# Altium integrated library WE-MAPI_rev15c.intlib: 99 symbols
Pins are listed as number, name and electrical type; pins without a type are passive.

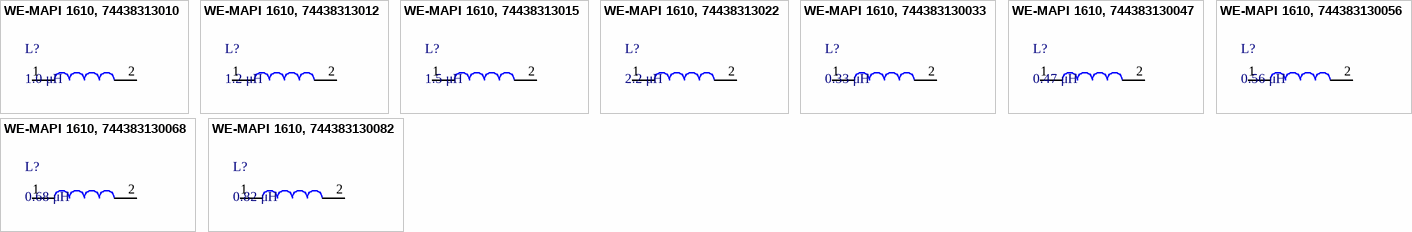
[diagram p0: symbols WE-MAPI 1610, 74438313010 to WE-MAPI 1610, 744383130082]

## WE-MAPI 1610, 74438313010
designator L?, comment 1.0 μH
WE-MAPI SMD Metal Alloy Power Inductor, Inductance = 1.0 μH; partNo: 74438313010; Manufacturer: Wurth Elektronik; Inductance: 1.0 μH; ComponentLink1Description: Manufacturer; ComponentLink1URL: http://www.we-online.de; Created by: Baojun Chen; Created Date: Nov.2015; ComponentLink2Description: Datasheet; ComponentLink2URL: http://katalog.we-online.de/pbs/datasheet/74438313010.pdf
footprint WE-MAPI_1610
pins: 1, 2

## WE-MAPI 1610, 74438313012
designator L?, comment 1.2 μH
WE-MAPI SMD Metal Alloy Power Inductor, Inductance = 1.2 μH; partNo: 74438313012; Manufacturer: Wurth Elektronik; Inductance: 1.2 μH; ComponentLink1Description: Manufacturer; ComponentLink1URL: http://www.we-online.de; Created by: Baojun Chen; Created Date: Nov.2015; ComponentLink2Description: Datasheet; ComponentLink2URL: http://katalog.we-online.de/pbs/datasheet/74438313012.pdf
footprint WE-MAPI_1610
pins: 1, 2

## WE-MAPI 1610, 74438313015
designator L?, comment 1.5 μH
WE-MAPI SMD Metal Alloy Power Inductor, Inductance = 1.5 μH; partNo: 74438313015; Manufacturer: Wurth Elektronik; Inductance: 1.5 μH; ComponentLink1Description: Manufacturer; ComponentLink1URL: http://www.we-online.de; Created by: Baojun Chen; Created Date: Nov.2015; ComponentLink2Description: Datasheet; ComponentLink2URL: http://katalog.we-online.de/pbs/datasheet/74438313015.pdf
footprint WE-MAPI_1610
pins: 1, 2

## WE-MAPI 1610, 74438313022
designator L?, comment 2.2 μH
WE-MAPI SMD Metal Alloy Power Inductor, Inductance = 2.2 μH; partNo: 74438313022; Manufacturer: Wurth Elektronik; Inductance: 2.2 μH; ComponentLink1Description: Manufacturer; ComponentLink1URL: http://www.we-online.de; Created by: Baojun Chen; Created Date: Nov.2015; ComponentLink2Description: Datasheet; ComponentLink2URL: http://katalog.we-online.de/pbs/datasheet/74438313022.pdf
footprint WE-MAPI_1610
pins: 1, 2

## WE-MAPI 1610, 744383130033
designator L?, comment 0.33 μH
WE-MAPI SMD Metal Alloy Power Inductor, Inductance = 0.33 μH; partNo: 744383130033; Manufacturer: Wurth Elektronik; Inductance: 0.33 μH; ComponentLink1Description: Manufacturer; ComponentLink1URL: http://www.we-online.de; Created by: Baojun Chen; Created Date: Nov.2015; ComponentLink2Description: Datasheet; ComponentLink2URL: http://katalog.we-online.de/pbs/datasheet/744383130033.pdf
footprint WE-MAPI_1610
pins: 1, 2

## WE-MAPI 1610, 744383130047
designator L?, comment 0.47 μH
WE-MAPI SMD Metal Alloy Power Inductor, Inductance = 0.47 μH; partNo: 744383130047; Manufacturer: Wurth Elektronik; Inductance: 0.47 μH; ComponentLink1Description: Manufacturer; ComponentLink1URL: http://www.we-online.de; Created by: Baojun Chen; Created Date: Nov.2015; ComponentLink2Description: Datasheet; ComponentLink2URL: http://katalog.we-online.de/pbs/datasheet/744383130047.pdf
footprint WE-MAPI_1610
pins: 1, 2

## WE-MAPI 1610, 744383130056
designator L?, comment 0.56 μH
WE-MAPI SMD Metal Alloy Power Inductor, Inductance = 0.56 μH; partNo: 744383130056; Manufacturer: Wurth Elektronik; Inductance: 0.56 μH; ComponentLink1Description: Manufacturer; ComponentLink1URL: http://www.we-online.de; Created by: Baojun Chen; Created Date: Nov.2015; ComponentLink2Description: Datasheet; ComponentLink2URL: http://katalog.we-online.de/pbs/datasheet/744383130056.pdf
footprint WE-MAPI_1610
pins: 1, 2

## WE-MAPI 1610, 744383130068
designator L?, comment 0.68 μH
WE-MAPI SMD Metal Alloy Power Inductor, Inductance = 0.68 μH; partNo: 744383130068; Manufacturer: Wurth Elektronik; Inductance: 0.68 μH; ComponentLink1Description: Manufacturer; ComponentLink1URL: http://www.we-online.de; Created by: Baojun Chen; Created Date: Nov.2015; ComponentLink2Description: Datasheet; ComponentLink2URL: http://katalog.we-online.de/pbs/datasheet/744383130068.pdf
footprint WE-MAPI_1610
pins: 1, 2

## WE-MAPI 1610, 744383130082
designator L?, comment 0.82 μH
WE-MAPI SMD Metal Alloy Power Inductor, Inductance = 0.82 μH; partNo: 744383130082; Manufacturer: Wurth Elektronik; Inductance: 0.82 μH; ComponentLink1Description: Manufacturer; ComponentLink1URL: http://www.we-online.de; Created by: Baojun Chen; Created Date: Nov.2015; ComponentLink2Description: Datasheet; ComponentLink2URL: http://katalog.we-online.de/pbs/datasheet/744383130082.pdf
footprint WE-MAPI_1610
pins: 1, 2


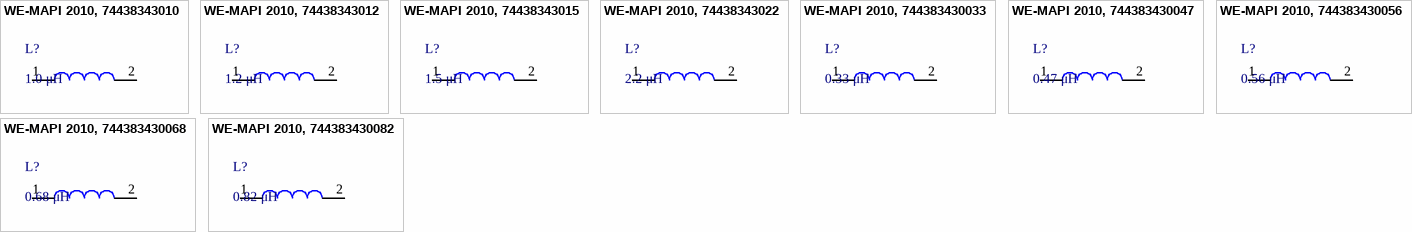
[diagram p1: symbols WE-MAPI 2010, 74438343010 to WE-MAPI 2010, 744383430082]

## WE-MAPI 2010, 74438343010
designator L?, comment 1.0 μH
WE-MAPI SMD Metal Alloy Power Inductor, Inductance = 1.0 μH; partNo: 74438343010; Manufacturer: Wurth Elektronik; Inductance: 1.0 μH; ComponentLink1Description: Manufacturer; ComponentLink1URL: http://www.we-online.de; Created by: Baojun Chen; Created Date: Nov.2015; ComponentLink2Description: Datasheet; ComponentLink2URL: http://katalog.we-online.de/pbs/datasheet/74438343010.pdf
footprint WE-MAPI_2010
pins: 1, 2

## WE-MAPI 2010, 74438343012
designator L?, comment 1.2 μH
WE-MAPI SMD Metal Alloy Power Inductor, Inductance = 1.2 μH; partNo: 74438343012; Manufacturer: Wurth Elektronik; Inductance: 1.2 μH; ComponentLink1Description: Manufacturer; ComponentLink1URL: http://www.we-online.de; Created by: Baojun Chen; Created Date: Nov.2015; ComponentLink2Description: Datasheet; ComponentLink2URL: http://katalog.we-online.de/pbs/datasheet/74438343012.pdf
footprint WE-MAPI_2010
pins: 1, 2

## WE-MAPI 2010, 74438343015
designator L?, comment 1.5 μH
WE-MAPI SMD Metal Alloy Power Inductor, Inductance = 1.5 μH; partNo: 74438343015; Manufacturer: Wurth Elektronik; Inductance: 1.5 μH; ComponentLink1Description: Manufacturer; ComponentLink1URL: http://www.we-online.de; Created by: Baojun Chen; Created Date: Nov.2015; ComponentLink2Description: Datasheet; ComponentLink2URL: http://katalog.we-online.de/pbs/datasheet/74438343015.pdf
footprint WE-MAPI_2010
pins: 1, 2

## WE-MAPI 2010, 74438343022
designator L?, comment 2.2 μH
WE-MAPI SMD Metal Alloy Power Inductor, Inductance = 2.2 μH; partNo: 74438343022; Manufacturer: Wurth Elektronik; Inductance: 2.2 μH; ComponentLink1Description: Manufacturer; ComponentLink1URL: http://www.we-online.de; Created by: Baojun Chen; Created Date: Nov.2015; ComponentLink2Description: Datasheet; ComponentLink2URL: http://katalog.we-online.de/pbs/datasheet/74438343022.pdf
footprint WE-MAPI_2010
pins: 1, 2

## WE-MAPI 2010, 744383430033
designator L?, comment 0.33 μH
WE-MAPI SMD Metal Alloy Power Inductor, Inductance = 0.33 μH; partNo: 744383430033; Manufacturer: Wurth Elektronik; Inductance: 0.33 μH; ComponentLink1Description: Manufacturer; ComponentLink1URL: http://www.we-online.de; Created by: Baojun Chen; Created Date: Nov.2015; ComponentLink2Description: Datasheet; ComponentLink2URL: http://katalog.we-online.de/pbs/datasheet/744383430033.pdf
footprint WE-MAPI_2010
pins: 1, 2

## WE-MAPI 2010, 744383430047
designator L?, comment 0.47 μH
WE-MAPI SMD Metal Alloy Power Inductor, Inductance = 0.47 μH; partNo: 744383430047; Manufacturer: Wurth Elektronik; Inductance: 0.47 μH; ComponentLink1Description: Manufacturer; ComponentLink1URL: http://www.we-online.de; Created by: Baojun Chen; Created Date: Nov.2015; ComponentLink2Description: Datasheet; ComponentLink2URL: http://katalog.we-online.de/pbs/datasheet/744383430047.pdf
footprint WE-MAPI_2010
pins: 1, 2

## WE-MAPI 2010, 744383430056
designator L?, comment 0.56 μH
WE-MAPI SMD Metal Alloy Power Inductor, Inductance = 0.56 μH; partNo: 744383430056; Manufacturer: Wurth Elektronik; Inductance: 0.56 μH; ComponentLink1Description: Manufacturer; ComponentLink1URL: http://www.we-online.de; Created by: Baojun Chen; Created Date: Nov.2015; ComponentLink2Description: Datasheet; ComponentLink2URL: http://katalog.we-online.de/pbs/datasheet/744383430056.pdf
footprint WE-MAPI_2010
pins: 1, 2

## WE-MAPI 2010, 744383430068
designator L?, comment 0.68 μH
WE-MAPI SMD Metal Alloy Power Inductor, Inductance = 0.68 μH; partNo: 744383430068; Manufacturer: Wurth Elektronik; Inductance: 0.68 μH; ComponentLink1Description: Manufacturer; ComponentLink1URL: http://www.we-online.de; Created by: Baojun Chen; Created Date: Nov.2015; ComponentLink2Description: Datasheet; ComponentLink2URL: http://katalog.we-online.de/pbs/datasheet/744383430068.pdf
footprint WE-MAPI_2010
pins: 1, 2

## WE-MAPI 2010, 744383430082
designator L?, comment 0.82 μH
WE-MAPI SMD Metal Alloy Power Inductor, Inductance = 0.82 μH; partNo: 744383430082; Manufacturer: Wurth Elektronik; Inductance: 0.82 μH; ComponentLink1Description: Manufacturer; ComponentLink1URL: http://www.we-online.de; Created by: Baojun Chen; Created Date: Nov.2015; ComponentLink2Description: Datasheet; ComponentLink2URL: http://katalog.we-online.de/pbs/datasheet/744383430082.pdf
footprint WE-MAPI_2010
pins: 1, 2


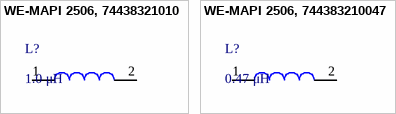
[diagram p2: symbols WE-MAPI 2506, 74438321010 to WE-MAPI 2506, 744383210047]

## WE-MAPI 2506, 74438321010
designator L?, comment 1.0 μH
WE-MAPI SMD Metal Alloy Power Inductor, Inductance = 1.0 μH; partNo: 74438321010; Manufacturer: Wurth Elektronik; Inductance: 1.0 μH; ComponentLink1Description: Manufacturer; ComponentLink1URL: http://www.we-online.de; Created by: Baojun Chen; Created Date: Nov.2015; ComponentLink2Description: Datasheet; ComponentLink2URL: http://katalog.we-online.de/pbs/datasheet/74438321010.pdf
footprint WE-MAPI_2506
pins: 1, 2

## WE-MAPI 2506, 744383210047
designator L?, comment 0.47 μH
WE-MAPI SMD Metal Alloy Power Inductor, Inductance = 0.47 μH; partNo: 744383210047; Manufacturer: Wurth Elektronik; Inductance: 0.47 μH; ComponentLink1Description: Manufacturer; ComponentLink1URL: http://www.we-online.de; Created by: Baojun Chen; Created Date: Nov.2015; ComponentLink2Description: Datasheet; ComponentLink2URL: http://katalog.we-online.de/pbs/datasheet/744383210047.pdf
footprint WE-MAPI_2506
pins: 1, 2


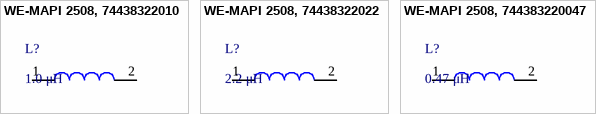
[diagram p3: symbols WE-MAPI 2508, 74438322010 to WE-MAPI 2508, 744383220047]

## WE-MAPI 2508, 74438322010
designator L?, comment 1.0 μH
WE-MAPI SMD Metal Alloy Power Inductor, Inductance = 1.0 μH; partNo: 74438322010; Manufacturer: Wurth Elektronik; Inductance: 1.0 μH; ComponentLink1Description: Manufacturer; ComponentLink1URL: http://www.we-online.de; Created by: Baojun Chen; Created Date: Nov.2015; ComponentLink2Description: Datasheet; ComponentLink2URL: http://katalog.we-online.de/pbs/datasheet/74438322010.pdf
footprint WE-MAPI_2508
pins: 1, 2

## WE-MAPI 2508, 74438322022
designator L?, comment 2.2 μH
WE-MAPI SMD Metal Alloy Power Inductor, Inductance = 2.2 μH; partNo: 74438322022; Manufacturer: Wurth Elektronik; Inductance: 2.2 μH; ComponentLink1Description: Manufacturer; ComponentLink1URL: http://www.we-online.de; Created by: Baojun Chen; Created Date: Nov.2015; ComponentLink2Description: Datasheet; ComponentLink2URL: http://katalog.we-online.de/pbs/datasheet/74438322022.pdf
footprint WE-MAPI_2508
pins: 1, 2

## WE-MAPI 2508, 744383220047
designator L?, comment 0.47 μH
WE-MAPI SMD Metal Alloy Power Inductor, Inductance = 0.47 μH; partNo: 744383220047; Manufacturer: Wurth Elektronik; Inductance: 0.47 μH; ComponentLink1Description: Manufacturer; ComponentLink1URL: http://www.we-online.de; Created by: Baojun Chen; Created Date: Nov.2015; ComponentLink2Description: Datasheet; ComponentLink2URL: http://katalog.we-online.de/pbs/datasheet/744383220047.pdf
footprint WE-MAPI_2508
pins: 1, 2


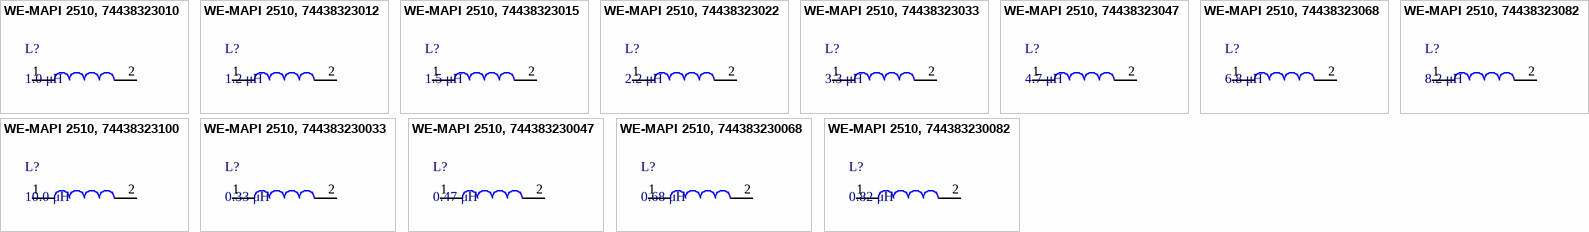
[diagram p4: symbols WE-MAPI 2510, 74438323010 to WE-MAPI 2510, 744383230082]

## WE-MAPI 2510, 74438323010
designator L?, comment 1.0 μH
WE-MAPI SMD Metal Alloy Power Inductor, Inductance = 1.0 μH; partNo: 74438323010; Manufacturer: Wurth Elektronik; Inductance: 1.0 μH; ComponentLink1Description: Manufacturer; ComponentLink1URL: http://www.we-online.de; Created by: Baojun Chen; Created Date: Nov.2015; ComponentLink2Description: Datasheet; ComponentLink2URL: http://katalog.we-online.de/pbs/datasheet/74438323010.pdf
footprint WE-MAPI_2510
pins: 1, 2

## WE-MAPI 2510, 74438323012
designator L?, comment 1.2 μH
WE-MAPI SMD Metal Alloy Power Inductor, Inductance = 1.2 μH; partNo: 74438323012; Manufacturer: Wurth Elektronik; Inductance: 1.2 μH; ComponentLink1Description: Manufacturer; ComponentLink1URL: http://www.we-online.de; Created by: Baojun Chen; Created Date: Nov.2015; ComponentLink2Description: Datasheet; ComponentLink2URL: http://katalog.we-online.de/pbs/datasheet/74438323012.pdf
footprint WE-MAPI_2510
pins: 1, 2

## WE-MAPI 2510, 74438323015
designator L?, comment 1.5 μH
WE-MAPI SMD Metal Alloy Power Inductor, Inductance = 1.5 μH; partNo: 74438323015; Manufacturer: Wurth Elektronik; Inductance: 1.5 μH; ComponentLink1Description: Manufacturer; ComponentLink1URL: http://www.we-online.de; Created by: Baojun Chen; Created Date: Nov.2015; ComponentLink2Description: Datasheet; ComponentLink2URL: http://katalog.we-online.de/pbs/datasheet/74438323015.pdf
footprint WE-MAPI_2510
pins: 1, 2

## WE-MAPI 2510, 74438323022
designator L?, comment 2.2 μH
WE-MAPI SMD Metal Alloy Power Inductor, Inductance = 2.2 μH; partNo: 74438323022; Manufacturer: Wurth Elektronik; Inductance: 2.2 μH; ComponentLink1Description: Manufacturer; ComponentLink1URL: http://www.we-online.de; Created by: Baojun Chen; Created Date: Nov.2015; ComponentLink2Description: Datasheet; ComponentLink2URL: http://katalog.we-online.de/pbs/datasheet/74438323022.pdf
footprint WE-MAPI_2510
pins: 1, 2

## WE-MAPI 2510, 74438323033
designator L?, comment 3.3 μH
WE-MAPI SMD Metal Alloy Power Inductor, Inductance = 3.3 μH; partNo: 74438323033; Manufacturer: Wurth Elektronik; Inductance: 3.3 μH; ComponentLink1Description: Manufacturer; ComponentLink1URL: http://www.we-online.de; Created by: Baojun Chen; Created Date: Nov.2015; ComponentLink2Description: Datasheet; ComponentLink2URL: http://katalog.we-online.de/pbs/datasheet/74438323033.pdf
footprint WE-MAPI_2510
pins: 1, 2

## WE-MAPI 2510, 74438323047
designator L?, comment 4.7 μH
WE-MAPI SMD Metal Alloy Power Inductor, Inductance = 4.7 μH; partNo: 74438323047; Manufacturer: Wurth Elektronik; Inductance: 4.7 μH; ComponentLink1Description: Manufacturer; ComponentLink1URL: http://www.we-online.de; Created by: Baojun Chen; Created Date: Nov.2015; ComponentLink2Description: Datasheet; ComponentLink2URL: http://katalog.we-online.de/pbs/datasheet/74438323047.pdf
footprint WE-MAPI_2510
pins: 1, 2

## WE-MAPI 2510, 74438323068
designator L?, comment 6.8 μH
WE-MAPI SMD Metal Alloy Power Inductor, Inductance = 6.8 μH; partNo: 74438323068; Manufacturer: Wurth Elektronik; Inductance: 6.8 μH; ComponentLink1Description: Manufacturer; ComponentLink1URL: http://www.we-online.de; Created by: Baojun Chen; Created Date: Nov.2015; ComponentLink2Description: Datasheet; ComponentLink2URL: http://katalog.we-online.de/pbs/datasheet/74438323068.pdf
footprint WE-MAPI_2510
pins: 1, 2

## WE-MAPI 2510, 74438323082
designator L?, comment 8.2 μH
WE-MAPI SMD Metal Alloy Power Inductor, Inductance = 8.2 μH; partNo: 74438323082; Manufacturer: Wurth Elektronik; Inductance: 8.2 μH; ComponentLink1Description: Manufacturer; ComponentLink1URL: http://www.we-online.de; Created by: Baojun Chen; Created Date: Nov.2015; ComponentLink2Description: Datasheet; ComponentLink2URL: http://katalog.we-online.de/pbs/datasheet/74438323082.pdf
footprint WE-MAPI_2510
pins: 1, 2

## WE-MAPI 2510, 74438323100
designator L?, comment 10.0 μH
WE-MAPI SMD Metal Alloy Power Inductor, Inductance = 10.0 μH; partNo: 74438323100; Manufacturer: Wurth Elektronik; Inductance: 10.0 μH; ComponentLink1Description: Manufacturer; ComponentLink1URL: http://www.we-online.de; Created by: Baojun Chen; Created Date: Nov.2015; ComponentLink2Description: Datasheet; ComponentLink2URL: http://katalog.we-online.de/pbs/datasheet/74438323100.pdf
footprint WE-MAPI_2510
pins: 1, 2

## WE-MAPI 2510, 744383230033
designator L?, comment 0.33 μH
WE-MAPI SMD Metal Alloy Power Inductor, Inductance = 0.33 μH; partNo: 744383230033; Manufacturer: Wurth Elektronik; Inductance: 0.33 μH; ComponentLink1Description: Manufacturer; ComponentLink1URL: http://www.we-online.de; Created by: Baojun Chen; Created Date: Nov.2015; ComponentLink2Description: Datasheet; ComponentLink2URL: http://katalog.we-online.de/pbs/datasheet/744383230033.pdf
footprint WE-MAPI_2510
pins: 1, 2

## WE-MAPI 2510, 744383230047
designator L?, comment 0.47 μH
WE-MAPI SMD Metal Alloy Power Inductor, Inductance = 0.47 μH; partNo: 744383230047; Manufacturer: Wurth Elektronik; Inductance: 0.47 μH; ComponentLink1Description: Manufacturer; ComponentLink1URL: http://www.we-online.de; Created by: Baojun Chen; Created Date: Nov.2015; ComponentLink2Description: Datasheet; ComponentLink2URL: http://katalog.we-online.de/pbs/datasheet/744383230047.pdf
footprint WE-MAPI_2510
pins: 1, 2

## WE-MAPI 2510, 744383230068
designator L?, comment 0.68 μH
WE-MAPI SMD Metal Alloy Power Inductor, Inductance = 0.68 μH; partNo: 744383230068; Manufacturer: Wurth Elektronik; Inductance: 0.68 μH; ComponentLink1Description: Manufacturer; ComponentLink1URL: http://www.we-online.de; Created by: Baojun Chen; Created Date: Nov.2015; ComponentLink2Description: Datasheet; ComponentLink2URL: http://katalog.we-online.de/pbs/datasheet/744383230068.pdf
footprint WE-MAPI_2510
pins: 1, 2

## WE-MAPI 2510, 744383230082
designator L?, comment 0.82 μH
WE-MAPI SMD Metal Alloy Power Inductor, Inductance = 0.82 μH; partNo: 744383230082; Manufacturer: Wurth Elektronik; Inductance: 0.82 μH; ComponentLink1Description: Manufacturer; ComponentLink1URL: http://www.we-online.de; Created by: Baojun Chen; Created Date: Nov.2015; ComponentLink2Description: Datasheet; ComponentLink2URL: http://katalog.we-online.de/pbs/datasheet/744383230082.pdf
footprint WE-MAPI_2510
pins: 1, 2


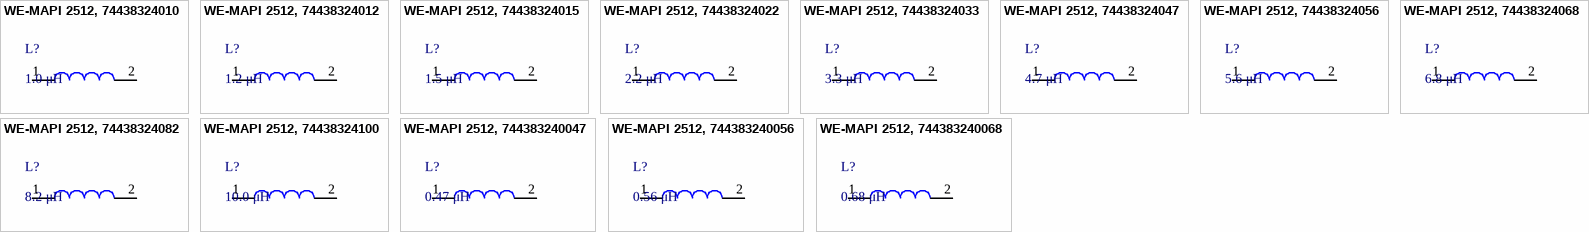
[diagram p5: symbols WE-MAPI 2512, 74438324010 to WE-MAPI 2512, 744383240068]

## WE-MAPI 2512, 74438324010
designator L?, comment 1.0 μH
WE-MAPI SMD Metal Alloy Power Inductor, Inductance = 1.0 μH; partNo: 74438324010; Manufacturer: Wurth Elektronik; Inductance: 1.0 μH; ComponentLink1Description: Manufacturer; ComponentLink1URL: http://www.we-online.de; Created by: Baojun Chen; Created Date: Nov.2015; ComponentLink2Description: Datasheet; ComponentLink2URL: http://katalog.we-online.de/pbs/datasheet/74438324010.pdf
footprint WE-MAPI_2512
pins: 1, 2

## WE-MAPI 2512, 74438324012
designator L?, comment 1.2 μH
WE-MAPI SMD Metal Alloy Power Inductor, Inductance = 1.2 μH; partNo: 74438324012; Manufacturer: Wurth Elektronik; Inductance: 1.2 μH; ComponentLink1Description: Manufacturer; ComponentLink1URL: http://www.we-online.de; Created by: Baojun Chen; Created Date: Nov.2015; ComponentLink2Description: Datasheet; ComponentLink2URL: http://katalog.we-online.de/pbs/datasheet/74438324012.pdf
footprint WE-MAPI_2512
pins: 1, 2

## WE-MAPI 2512, 74438324015
designator L?, comment 1.5 μH
WE-MAPI SMD Metal Alloy Power Inductor, Inductance = 1.5 μH; partNo: 74438324015; Manufacturer: Wurth Elektronik; Inductance: 1.5 μH; ComponentLink1Description: Manufacturer; ComponentLink1URL: http://www.we-online.de; Created by: Baojun Chen; Created Date: Nov.2015; ComponentLink2Description: Datasheet; ComponentLink2URL: http://katalog.we-online.de/pbs/datasheet/74438324015.pdf
footprint WE-MAPI_2512
pins: 1, 2

## WE-MAPI 2512, 74438324022
designator L?, comment 2.2 μH
WE-MAPI SMD Metal Alloy Power Inductor, Inductance = 2.2 μH; partNo: 74438324022; Manufacturer: Wurth Elektronik; Inductance: 2.2 μH; ComponentLink1Description: Manufacturer; ComponentLink1URL: http://www.we-online.de; Created by: Baojun Chen; Created Date: Nov.2015; ComponentLink2Description: Datasheet; ComponentLink2URL: http://katalog.we-online.de/pbs/datasheet/74438324022.pdf
footprint WE-MAPI_2512
pins: 1, 2

## WE-MAPI 2512, 74438324033
designator L?, comment 3.3 μH
WE-MAPI SMD Metal Alloy Power Inductor, Inductance = 3.3 μH; partNo: 74438324033; Manufacturer: Wurth Elektronik; Inductance: 3.3 μH; ComponentLink1Description: Manufacturer; ComponentLink1URL: http://www.we-online.de; Created by: Baojun Chen; Created Date: Nov.2015; ComponentLink2Description: Datasheet; ComponentLink2URL: http://katalog.we-online.de/pbs/datasheet/74438324033.pdf
footprint WE-MAPI_2512
pins: 1, 2

## WE-MAPI 2512, 74438324047
designator L?, comment 4.7 μH
WE-MAPI SMD Metal Alloy Power Inductor, Inductance = 4.7 μH; partNo: 74438324047; Manufacturer: Wurth Elektronik; Inductance: 4.7 μH; ComponentLink1Description: Manufacturer; ComponentLink1URL: http://www.we-online.de; Created by: Baojun Chen; Created Date: Nov.2015; ComponentLink2Description: Datasheet; ComponentLink2URL: http://katalog.we-online.de/pbs/datasheet/74438324047.pdf
footprint WE-MAPI_2512
pins: 1, 2

## WE-MAPI 2512, 74438324056
designator L?, comment 5.6 μH
WE-MAPI SMD Metal Alloy Power Inductor, Inductance = 5.6 μH; partNo: 74438324056; Manufacturer: Wurth Elektronik; Inductance: 5.6 μH; ComponentLink1Description: Manufacturer; ComponentLink1URL: http://www.we-online.de; Created by: Baojun Chen; Created Date: Nov.2015; ComponentLink2Description: Datasheet; ComponentLink2URL: http://katalog.we-online.de/pbs/datasheet/74438324056.pdf
footprint WE-MAPI_2512
pins: 1, 2

## WE-MAPI 2512, 74438324068
designator L?, comment 6.8 μH
WE-MAPI SMD Metal Alloy Power Inductor, Inductance = 6.8 μH; partNo: 74438324068; Manufacturer: Wurth Elektronik; Inductance: 6.8 μH; ComponentLink1Description: Manufacturer; ComponentLink1URL: http://www.we-online.de; Created by: Baojun Chen; Created Date: Nov.2015; ComponentLink2Description: Datasheet; ComponentLink2URL: http://katalog.we-online.de/pbs/datasheet/74438324068.pdf
footprint WE-MAPI_2512
pins: 1, 2

## WE-MAPI 2512, 74438324082
designator L?, comment 8.2 μH
WE-MAPI SMD Metal Alloy Power Inductor, Inductance = 8.2 μH; partNo: 74438324082; Manufacturer: Wurth Elektronik; Inductance: 8.2 μH; ComponentLink1Description: Manufacturer; ComponentLink1URL: http://www.we-online.de; Created by: Baojun Chen; Created Date: Nov.2015; ComponentLink2Description: Datasheet; ComponentLink2URL: http://katalog.we-online.de/pbs/datasheet/74438324082.pdf
footprint WE-MAPI_2512
pins: 1, 2

## WE-MAPI 2512, 74438324100
designator L?, comment 10.0 μH
WE-MAPI SMD Metal Alloy Power Inductor, Inductance = 10.0 μH; partNo: 74438324100; Manufacturer: Wurth Elektronik; Inductance: 10.0 μH; ComponentLink1Description: Manufacturer; ComponentLink1URL: http://www.we-online.de; Created by: Baojun Chen; Created Date: Nov.2015; ComponentLink2Description: Datasheet; ComponentLink2URL: http://katalog.we-online.de/pbs/datasheet/74438324100.pdf
footprint WE-MAPI_2512
pins: 1, 2

## WE-MAPI 2512, 744383240047
designator L?, comment 0.47 μH
WE-MAPI SMD Metal Alloy Power Inductor, Inductance = 0.47 μH; partNo: 744383240047; Manufacturer: Wurth Elektronik; Inductance: 0.47 μH; ComponentLink1Description: Manufacturer; ComponentLink1URL: http://www.we-online.de; Created by: Baojun Chen; Created Date: Nov.2015; ComponentLink2Description: Datasheet; ComponentLink2URL: http://katalog.we-online.de/pbs/datasheet/744383240047.pdf
footprint WE-MAPI_2512
pins: 1, 2

## WE-MAPI 2512, 744383240056
designator L?, comment 0.56 μH
WE-MAPI SMD Metal Alloy Power Inductor, Inductance = 0.56 μH; partNo: 744383240056; Manufacturer: Wurth Elektronik; Inductance: 0.56 μH; ComponentLink1Description: Manufacturer; ComponentLink1URL: http://www.we-online.de; Created by: Baojun Chen; Created Date: Nov.2015; ComponentLink2Description: Datasheet; ComponentLink2URL: http://katalog.we-online.de/pbs/datasheet/744383240056.pdf
footprint WE-MAPI_2512
pins: 1, 2

## WE-MAPI 2512, 744383240068
designator L?, comment 0.68 μH
WE-MAPI SMD Metal Alloy Power Inductor, Inductance = 0.68 μH; partNo: 744383240068; Manufacturer: Wurth Elektronik; Inductance: 0.68 μH; ComponentLink1Description: Manufacturer; ComponentLink1URL: http://www.we-online.de; Created by: Baojun Chen; Created Date: Nov.2015; ComponentLink2Description: Datasheet; ComponentLink2URL: http://katalog.we-online.de/pbs/datasheet/744383240068.pdf
footprint WE-MAPI_2512
pins: 1, 2


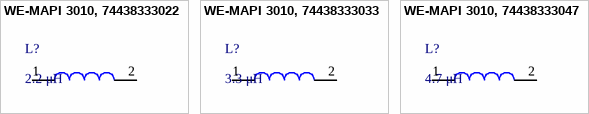
[diagram p6: symbols WE-MAPI 3010, 74438333022 to WE-MAPI 3010, 74438333047]

## WE-MAPI 3010, 74438333022
designator L?, comment 2.2 μH
WE-MAPI SMD Metal Alloy Power Inductor, Inductance = 2.2 μH; partNo: 74438333022; Manufacturer: Wurth Elektronik; Inductance: 2.2 μH; ComponentLink1Description: Manufacturer; ComponentLink1URL: http://www.we-online.de; Created by: Baojun Chen; Created Date: Nov.2015; ComponentLink2Description: Datasheet; ComponentLink2URL: http://katalog.we-online.de/pbs/datasheet/74438333022.pdf
footprint WE-MAPI_3010
pins: 1, 2

## WE-MAPI 3010, 74438333033
designator L?, comment 3.3 μH
WE-MAPI SMD Metal Alloy Power Inductor, Inductance = 3.3 μH; partNo: 74438333033; Manufacturer: Wurth Elektronik; Inductance: 3.3 μH; ComponentLink1Description: Manufacturer; ComponentLink1URL: http://www.we-online.de; Created by: Baojun Chen; Created Date: Nov.2015; ComponentLink2Description: Datasheet; ComponentLink2URL: http://katalog.we-online.de/pbs/datasheet/74438333033.pdf
footprint WE-MAPI_3010
pins: 1, 2

## WE-MAPI 3010, 74438333047
designator L?, comment 4.7 μH
WE-MAPI SMD Metal Alloy Power Inductor, Inductance = 4.7 μH; partNo: 74438333047; Manufacturer: Wurth Elektronik; Inductance: 4.7 μH; ComponentLink1Description: Manufacturer; ComponentLink1URL: http://www.we-online.de; Created by: Baojun Chen; Created Date: Nov.2015; ComponentLink2Description: Datasheet; ComponentLink2URL: http://katalog.we-online.de/pbs/datasheet/74438333047.pdf
footprint WE-MAPI_3010
pins: 1, 2


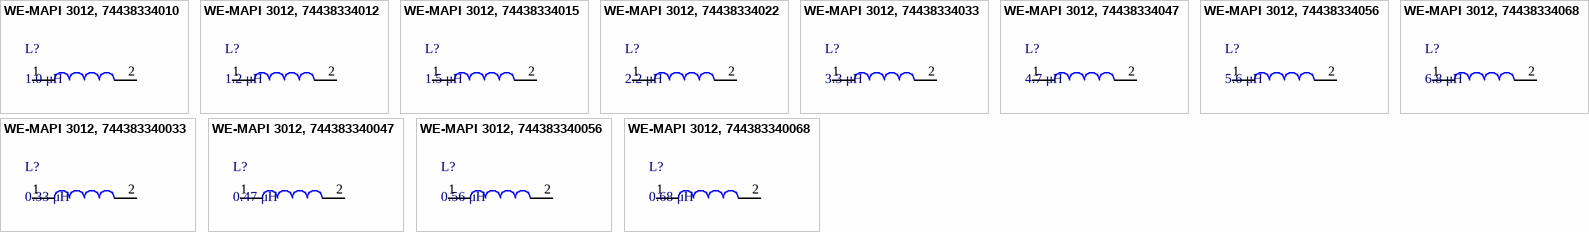
[diagram p7: symbols WE-MAPI 3012, 74438334010 to WE-MAPI 3012, 744383340068]

## WE-MAPI 3012, 74438334010
designator L?, comment 1.0 μH
WE-MAPI SMD Metal Alloy Power Inductor, Inductance = 1.0 μH; partNo: 74438334010; Manufacturer: Wurth Elektronik; Inductance: 1.0 μH; ComponentLink1Description: Manufacturer; ComponentLink1URL: http://www.we-online.de; Created by: Baojun Chen; Created Date: Nov.2015; ComponentLink2Description: Datasheet; ComponentLink2URL: http://katalog.we-online.de/pbs/datasheet/74438334010.pdf
footprint WE-MAPI_3012
pins: 1, 2

## WE-MAPI 3012, 74438334012
designator L?, comment 1.2 μH
WE-MAPI SMD Metal Alloy Power Inductor, Inductance = 1.2 μH; partNo: 74438334012; Manufacturer: Wurth Elektronik; Inductance: 1.2 μH; ComponentLink1Description: Manufacturer; ComponentLink1URL: http://www.we-online.de; Created by: Baojun Chen; Created Date: Nov.2015; ComponentLink2Description: Datasheet; ComponentLink2URL: http://katalog.we-online.de/pbs/datasheet/74438334012.pdf
footprint WE-MAPI_3012
pins: 1, 2

## WE-MAPI 3012, 74438334015
designator L?, comment 1.5 μH
WE-MAPI SMD Metal Alloy Power Inductor, Inductance = 1.5 μH; partNo: 74438334015; Manufacturer: Wurth Elektronik; Inductance: 1.5 μH; ComponentLink1Description: Manufacturer; ComponentLink1URL: http://www.we-online.de; Created by: Baojun Chen; Created Date: Nov.2015; ComponentLink2Description: Datasheet; ComponentLink2URL: http://katalog.we-online.de/pbs/datasheet/74438334015.pdf
footprint WE-MAPI_3012
pins: 1, 2

## WE-MAPI 3012, 74438334022
designator L?, comment 2.2 μH
WE-MAPI SMD Metal Alloy Power Inductor, Inductance = 2.2 μH; partNo: 74438334022; Manufacturer: Wurth Elektronik; Inductance: 2.2 μH; ComponentLink1Description: Manufacturer; ComponentLink1URL: http://www.we-online.de; Created by: Baojun Chen; Created Date: Nov.2015; ComponentLink2Description: Datasheet; ComponentLink2URL: http://katalog.we-online.de/pbs/datasheet/74438334022.pdf
footprint WE-MAPI_3012
pins: 1, 2

## WE-MAPI 3012, 74438334033
designator L?, comment 3.3 μH
WE-MAPI SMD Metal Alloy Power Inductor, Inductance = 3.3 μH; partNo: 74438334033; Manufacturer: Wurth Elektronik; Inductance: 3.3 μH; ComponentLink1Description: Manufacturer; ComponentLink1URL: http://www.we-online.de; Created by: Baojun Chen; Created Date: Nov.2015; ComponentLink2Description: Datasheet; ComponentLink2URL: http://katalog.we-online.de/pbs/datasheet/74438334033.pdf
footprint WE-MAPI_3012
pins: 1, 2

## WE-MAPI 3012, 74438334047
designator L?, comment 4.7 μH
WE-MAPI SMD Metal Alloy Power Inductor, Inductance = 4.7 μH; partNo: 74438334047; Manufacturer: Wurth Elektronik; Inductance: 4.7 μH; ComponentLink1Description: Manufacturer; ComponentLink1URL: http://www.we-online.de; Created by: Baojun Chen; Created Date: Nov.2015; ComponentLink2Description: Datasheet; ComponentLink2URL: http://katalog.we-online.de/pbs/datasheet/74438334047.pdf
footprint WE-MAPI_3012
pins: 1, 2

## WE-MAPI 3012, 74438334056
designator L?, comment 5.6 μH
WE-MAPI SMD Metal Alloy Power Inductor, Inductance = 5.6 μH; partNo: 74438334056; Manufacturer: Wurth Elektronik; Inductance: 5.6 μH; ComponentLink1Description: Manufacturer; ComponentLink1URL: http://www.we-online.de; Created by: Baojun Chen; Created Date: Nov.2015; ComponentLink2Description: Datasheet; ComponentLink2URL: http://katalog.we-online.de/pbs/datasheet/74438334056.pdf
footprint WE-MAPI_3012
pins: 1, 2

## WE-MAPI 3012, 74438334068
designator L?, comment 6.8 μH
WE-MAPI SMD Metal Alloy Power Inductor, Inductance = 6.8 μH; partNo: 74438334068; Manufacturer: Wurth Elektronik; Inductance: 6.8 μH; ComponentLink1Description: Manufacturer; ComponentLink1URL: http://www.we-online.de; Created by: Baojun Chen; Created Date: Nov.2015; ComponentLink2Description: Datasheet; ComponentLink2URL: http://katalog.we-online.de/pbs/datasheet/74438334068.pdf
footprint WE-MAPI_3012
pins: 1, 2

## WE-MAPI 3012, 744383340033
designator L?, comment 0.33 μH
WE-MAPI SMD Metal Alloy Power Inductor, Inductance = 0.33 μH; partNo: 744383340033; Manufacturer: Wurth Elektronik; Inductance: 0.33 μH; ComponentLink1Description: Manufacturer; ComponentLink1URL: http://www.we-online.de; Created by: Baojun Chen; Created Date: Nov.2015; ComponentLink2Description: Datasheet; ComponentLink2URL: http://katalog.we-online.de/pbs/datasheet/744383340033.pdf
footprint WE-MAPI_3012
pins: 1, 2

## WE-MAPI 3012, 744383340047
designator L?, comment 0.47 μH
WE-MAPI SMD Metal Alloy Power Inductor, Inductance = 0.47 μH; partNo: 744383340047; Manufacturer: Wurth Elektronik; Inductance: 0.47 μH; ComponentLink1Description: Manufacturer; ComponentLink1URL: http://www.we-online.de; Created by: Baojun Chen; Created Date: Nov.2015; ComponentLink2Description: Datasheet; ComponentLink2URL: http://katalog.we-online.de/pbs/datasheet/744383340047.pdf
footprint WE-MAPI_3012
pins: 1, 2

## WE-MAPI 3012, 744383340056
designator L?, comment 0.56 μH
WE-MAPI SMD Metal Alloy Power Inductor, Inductance = 0.56 μH; partNo: 744383340056; Manufacturer: Wurth Elektronik; Inductance: 0.56 μH; ComponentLink1Description: Manufacturer; ComponentLink1URL: http://www.we-online.de; Created by: Baojun Chen; Created Date: Nov.2015; ComponentLink2Description: Datasheet; ComponentLink2URL: http://katalog.we-online.de/pbs/datasheet/744383340056.pdf
footprint WE-MAPI_3012
pins: 1, 2

## WE-MAPI 3012, 744383340068
designator L?, comment 0.68 μH
WE-MAPI SMD Metal Alloy Power Inductor, Inductance = 0.68 μH; partNo: 744383340068; Manufacturer: Wurth Elektronik; Inductance: 0.68 μH; ComponentLink1Description: Manufacturer; ComponentLink1URL: http://www.we-online.de; Created by: Baojun Chen; Created Date: Nov.2015; ComponentLink2Description: Datasheet; ComponentLink2URL: http://katalog.we-online.de/pbs/datasheet/744383340068.pdf
footprint WE-MAPI_3012
pins: 1, 2


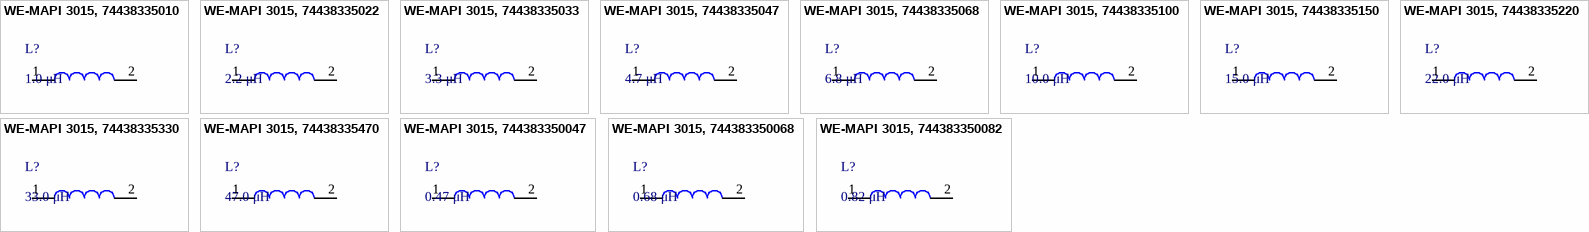
[diagram p8: symbols WE-MAPI 3015, 74438335010 to WE-MAPI 3015, 744383350082]

## WE-MAPI 3015, 74438335010
designator L?, comment 1.0 μH
WE-MAPI SMD Metal Alloy Power Inductor, Inductance = 1.0 μH; partNo: 74438335010; Manufacturer: Wurth Elektronik; Inductance: 1.0 μH; ComponentLink1Description: Manufacturer; ComponentLink1URL: http://www.we-online.de; Created by: Baojun Chen; Created Date: Nov.2015; ComponentLink2Description: Datasheet; ComponentLink2URL: http://katalog.we-online.de/pbs/datasheet/74438335010.pdf
footprint WE-MAPI_3015
pins: 1, 2

## WE-MAPI 3015, 74438335022
designator L?, comment 2.2 μH
WE-MAPI SMD Metal Alloy Power Inductor, Inductance = 2.2 μH; partNo: 74438335022; Manufacturer: Wurth Elektronik; Inductance: 2.2 μH; ComponentLink1Description: Manufacturer; ComponentLink1URL: http://www.we-online.de; Created by: Baojun Chen; Created Date: Nov.2015; ComponentLink2Description: Datasheet; ComponentLink2URL: http://katalog.we-online.de/pbs/datasheet/74438335022.pdf
footprint WE-MAPI_3015
pins: 1, 2

## WE-MAPI 3015, 74438335033
designator L?, comment 3.3 μH
WE-MAPI SMD Metal Alloy Power Inductor, Inductance = 3.3 μH; partNo: 74438335033; Manufacturer: Wurth Elektronik; Inductance: 3.3 μH; ComponentLink1Description: Manufacturer; ComponentLink1URL: http://www.we-online.de; Created by: Baojun Chen; Created Date: Nov.2015; ComponentLink2Description: Datasheet; ComponentLink2URL: http://katalog.we-online.de/pbs/datasheet/74438335033.pdf
footprint WE-MAPI_3015
pins: 1, 2

## WE-MAPI 3015, 74438335047
designator L?, comment 4.7 μH
WE-MAPI SMD Metal Alloy Power Inductor, Inductance = 4.7 μH; partNo: 74438335047; Manufacturer: Wurth Elektronik; Inductance: 4.7 μH; ComponentLink1Description: Manufacturer; ComponentLink1URL: http://www.we-online.de; Created by: Baojun Chen; Created Date: Nov.2015; ComponentLink2Description: Datasheet; ComponentLink2URL: http://katalog.we-online.de/pbs/datasheet/74438335047.pdf
footprint WE-MAPI_3015
pins: 1, 2

## WE-MAPI 3015, 74438335068
designator L?, comment 6.8 μH
WE-MAPI SMD Metal Alloy Power Inductor, Inductance = 6.8 μH; partNo: 74438335068; Manufacturer: Wurth Elektronik; Inductance: 6.8 μH; ComponentLink1Description: Manufacturer; ComponentLink1URL: http://www.we-online.de; Created by: Baojun Chen; Created Date: Nov.2015; ComponentLink2Description: Datasheet; ComponentLink2URL: http://katalog.we-online.de/pbs/datasheet/74438335068.pdf
footprint WE-MAPI_3015
pins: 1, 2

## WE-MAPI 3015, 74438335100
designator L?, comment 10.0 μH
WE-MAPI SMD Metal Alloy Power Inductor, Inductance = 10.0 μH; partNo: 74438335100; Manufacturer: Wurth Elektronik; Inductance: 10.0 μH; ComponentLink1Description: Manufacturer; ComponentLink1URL: http://www.we-online.de; Created by: Baojun Chen; Created Date: Nov.2015; ComponentLink2Description: Datasheet; ComponentLink2URL: http://katalog.we-online.de/pbs/datasheet/74438335100.pdf
footprint WE-MAPI_3015
pins: 1, 2

## WE-MAPI 3015, 74438335150
designator L?, comment 15.0 μH
WE-MAPI SMD Metal Alloy Power Inductor, Inductance = 15.0 μH; partNo: 74438335150; Manufacturer: Wurth Elektronik; Inductance: 15.0 μH; ComponentLink1Description: Manufacturer; ComponentLink1URL: http://www.we-online.de; Created by: Baojun Chen; Created Date: Nov.2015; ComponentLink2Description: Datasheet; ComponentLink2URL: http://katalog.we-online.de/pbs/datasheet/74438335150.pdf
footprint WE-MAPI_3015
pins: 1, 2

## WE-MAPI 3015, 74438335220
designator L?, comment 22.0 μH
WE-MAPI SMD Metal Alloy Power Inductor, Inductance = 22.0 μH; partNo: 74438335220; Manufacturer: Wurth Elektronik; Inductance: 22.0 μH; ComponentLink1Description: Manufacturer; ComponentLink1URL: http://www.we-online.de; Created by: Baojun Chen; Created Date: Nov.2015; ComponentLink2Description: Datasheet; ComponentLink2URL: http://katalog.we-online.de/pbs/datasheet/74438335220.pdf
footprint WE-MAPI_3015
pins: 1, 2

## WE-MAPI 3015, 74438335330
designator L?, comment 33.0 μH
WE-MAPI SMD Metal Alloy Power Inductor, Inductance = 33.0 μH; partNo: 74438335330; Manufacturer: Wurth Elektronik; Inductance: 33.0 μH; ComponentLink1Description: Manufacturer; ComponentLink1URL: http://www.we-online.de; Created by: Baojun Chen; Created Date: Nov.2015; ComponentLink2Description: Datasheet; ComponentLink2URL: http://katalog.we-online.de/pbs/datasheet/74438335330.pdf
footprint WE-MAPI_3015
pins: 1, 2

## WE-MAPI 3015, 74438335470
designator L?, comment 47.0 μH
WE-MAPI SMD Metal Alloy Power Inductor, Inductance = 47.0 μH; partNo: 74438335470; Manufacturer: Wurth Elektronik; Inductance: 47.0 μH; ComponentLink1Description: Manufacturer; ComponentLink1URL: http://www.we-online.de; Created by: Baojun Chen; Created Date: Nov.2015; ComponentLink2Description: Datasheet; ComponentLink2URL: http://katalog.we-online.de/pbs/datasheet/74438335470.pdf
footprint WE-MAPI_3015
pins: 1, 2

## WE-MAPI 3015, 744383350047
designator L?, comment 0.47 μH
WE-MAPI SMD Metal Alloy Power Inductor, Inductance = 0.47 μH; partNo: 744383350047; Manufacturer: Wurth Elektronik; Inductance: 0.47 μH; ComponentLink1Description: Manufacturer; ComponentLink1URL: http://www.we-online.de; Created by: Baojun Chen; Created Date: Nov.2015; ComponentLink2Description: Datasheet; ComponentLink2URL: http://katalog.we-online.de/pbs/datasheet/744383350047.pdf
footprint WE-MAPI_3015
pins: 1, 2

## WE-MAPI 3015, 744383350068
designator L?, comment 0.68 μH
WE-MAPI SMD Metal Alloy Power Inductor, Inductance = 0.68 μH; partNo: 744383350068; Manufacturer: Wurth Elektronik; Inductance: 0.68 μH; ComponentLink1Description: Manufacturer; ComponentLink1URL: http://www.we-online.de; Created by: Baojun Chen; Created Date: Nov.2015; ComponentLink2Description: Datasheet; ComponentLink2URL: http://katalog.we-online.de/pbs/datasheet/744383350068.pdf
footprint WE-MAPI_3015
pins: 1, 2

## WE-MAPI 3015, 744383350082
designator L?, comment 0.82 μH
WE-MAPI SMD Metal Alloy Power Inductor, Inductance = 0.82 μH; partNo: 744383350082; Manufacturer: Wurth Elektronik; Inductance: 0.82 μH; ComponentLink1Description: Manufacturer; ComponentLink1URL: http://www.we-online.de; Created by: Baojun Chen; Created Date: Nov.2015; ComponentLink2Description: Datasheet; ComponentLink2URL: http://katalog.we-online.de/pbs/datasheet/744383350082.pdf
footprint WE-MAPI_3015
pins: 1, 2


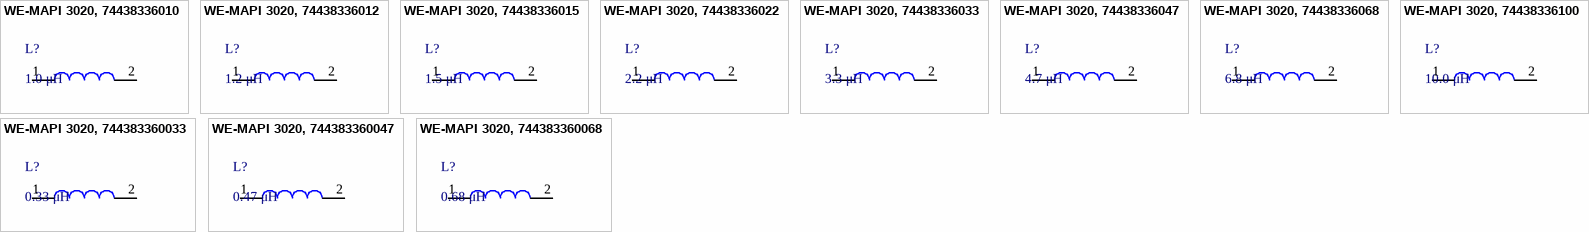
[diagram p9: symbols WE-MAPI 3020, 74438336010 to WE-MAPI 3020, 744383360068]

## WE-MAPI 3020, 74438336010
designator L?, comment 1.0 μH
WE-MAPI SMD Metal Alloy Power Inductor, Inductance = 1.0 μH; partNo: 74438336010; Manufacturer: Wurth Elektronik; Inductance: 1.0 μH; ComponentLink1Description: Manufacturer; ComponentLink1URL: http://www.we-online.de; Created by: Baojun Chen; Created Date: Nov.2015; ComponentLink2Description: Datasheet; ComponentLink2URL: http://katalog.we-online.de/pbs/datasheet/74438336010.pdf
footprint WE-MAPI_3020
pins: 1, 2

## WE-MAPI 3020, 74438336012
designator L?, comment 1.2 μH
WE-MAPI SMD Metal Alloy Power Inductor, Inductance = 1.2 μH; partNo: 74438336012; Manufacturer: Wurth Elektronik; Inductance: 1.2 μH; ComponentLink1Description: Manufacturer; ComponentLink1URL: http://www.we-online.de; Created by: Baojun Chen; Created Date: Nov.2015; ComponentLink2Description: Datasheet; ComponentLink2URL: http://katalog.we-online.de/pbs/datasheet/74438336012.pdf
footprint WE-MAPI_3020
pins: 1, 2

## WE-MAPI 3020, 74438336015
designator L?, comment 1.5 μH
WE-MAPI SMD Metal Alloy Power Inductor, Inductance = 1.5 μH; partNo: 74438336015; Manufacturer: Wurth Elektronik; Inductance: 1.5 μH; ComponentLink1Description: Manufacturer; ComponentLink1URL: http://www.we-online.de; Created by: Baojun Chen; Created Date: Nov.2015; ComponentLink2Description: Datasheet; ComponentLink2URL: http://katalog.we-online.de/pbs/datasheet/74438336015.pdf
footprint WE-MAPI_3020
pins: 1, 2

## WE-MAPI 3020, 74438336022
designator L?, comment 2.2 μH
WE-MAPI SMD Metal Alloy Power Inductor, Inductance = 2.2 μH; partNo: 74438336022; Manufacturer: Wurth Elektronik; Inductance: 2.2 μH; ComponentLink1Description: Manufacturer; ComponentLink1URL: http://www.we-online.de; Created by: Baojun Chen; Created Date: Nov.2015; ComponentLink2Description: Datasheet; ComponentLink2URL: http://katalog.we-online.de/pbs/datasheet/74438336022.pdf
footprint WE-MAPI_3020
pins: 1, 2

## WE-MAPI 3020, 74438336033
designator L?, comment 3.3 μH
WE-MAPI SMD Metal Alloy Power Inductor, Inductance = 3.3 μH; partNo: 74438336033; Manufacturer: Wurth Elektronik; Inductance: 3.3 μH; ComponentLink1Description: Manufacturer; ComponentLink1URL: http://www.we-online.de; Created by: Baojun Chen; Created Date: Nov.2015; ComponentLink2Description: Datasheet; ComponentLink2URL: http://katalog.we-online.de/pbs/datasheet/74438336033.pdf
footprint WE-MAPI_3020
pins: 1, 2

## WE-MAPI 3020, 74438336047
designator L?, comment 4.7 μH
WE-MAPI SMD Metal Alloy Power Inductor, Inductance = 4.7 μH; partNo: 74438336047; Manufacturer: Wurth Elektronik; Inductance: 4.7 μH; ComponentLink1Description: Manufacturer; ComponentLink1URL: http://www.we-online.de; Created by: Baojun Chen; Created Date: Nov.2015; ComponentLink2Description: Datasheet; ComponentLink2URL: http://katalog.we-online.de/pbs/datasheet/74438336047.pdf
footprint WE-MAPI_3020
pins: 1, 2

## WE-MAPI 3020, 74438336068
designator L?, comment 6.8 μH
WE-MAPI SMD Metal Alloy Power Inductor, Inductance = 6.8 μH; partNo: 74438336068; Manufacturer: Wurth Elektronik; Inductance: 6.8 μH; ComponentLink1Description: Manufacturer; ComponentLink1URL: http://www.we-online.de; Created by: Baojun Chen; Created Date: Nov.2015; ComponentLink2Description: Datasheet; ComponentLink2URL: http://katalog.we-online.de/pbs/datasheet/74438336068.pdf
footprint WE-MAPI_3020
pins: 1, 2

## WE-MAPI 3020, 74438336100
designator L?, comment 10.0 μH
WE-MAPI SMD Metal Alloy Power Inductor, Inductance = 10.0 μH; partNo: 74438336100; Manufacturer: Wurth Elektronik; Inductance: 10.0 μH; ComponentLink1Description: Manufacturer; ComponentLink1URL: http://www.we-online.de; Created by: Baojun Chen; Created Date: Nov.2015; ComponentLink2Description: Datasheet; ComponentLink2URL: http://katalog.we-online.de/pbs/datasheet/74438336100.pdf
footprint WE-MAPI_3020
pins: 1, 2

## WE-MAPI 3020, 744383360033
designator L?, comment 0.33 μH
WE-MAPI SMD Metal Alloy Power Inductor, Inductance = 0.33 μH; partNo: 744383360033; Manufacturer: Wurth Elektronik; Inductance: 0.33 μH; ComponentLink1Description: Manufacturer; ComponentLink1URL: http://www.we-online.de; Created by: Baojun Chen; Created Date: Nov.2015; ComponentLink2Description: Datasheet; ComponentLink2URL: http://katalog.we-online.de/pbs/datasheet/744383360033.pdf
footprint WE-MAPI_3020
pins: 1, 2

## WE-MAPI 3020, 744383360047
designator L?, comment 0.47 μH
WE-MAPI SMD Metal Alloy Power Inductor, Inductance = 0.47 μH; partNo: 744383360047; Manufacturer: Wurth Elektronik; Inductance: 0.47 μH; ComponentLink1Description: Manufacturer; ComponentLink1URL: http://www.we-online.de; Created by: Baojun Chen; Created Date: Nov.2015; ComponentLink2Description: Datasheet; ComponentLink2URL: http://katalog.we-online.de/pbs/datasheet/744383360047.pdf
footprint WE-MAPI_3020
pins: 1, 2

## WE-MAPI 3020, 744383360068
designator L?, comment 0.68 μH
WE-MAPI SMD Metal Alloy Power Inductor, Inductance = 0.68 μH; partNo: 744383360068; Manufacturer: Wurth Elektronik; Inductance: 0.68 μH; ComponentLink1Description: Manufacturer; ComponentLink1URL: http://www.we-online.de; Created by: Baojun Chen; Created Date: Nov.2015; ComponentLink2Description: Datasheet; ComponentLink2URL: http://katalog.we-online.de/pbs/datasheet/744383360068.pdf
footprint WE-MAPI_3020
pins: 1, 2


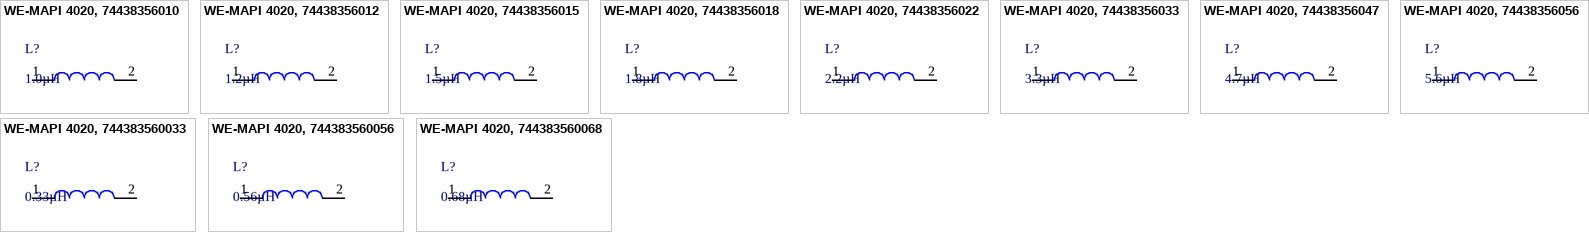
[diagram p10: symbols WE-MAPI 4020, 74438356010 to WE-MAPI 4020, 744383560068]

## WE-MAPI 4020, 74438356010
designator L?, comment 1.0µH
WE-MAPI SMD Metal Alloy Power Inductor, Inductance = 1.0µH; partNo: 74438356010; Manufacturer: Wurth Elektronik; Inductance: 1.0µH; ComponentLink1Description: Manufacturer; ComponentLink1URL: http://www.we-online.de; Created by: Baojun Chen; Created Date: Dec.2015; ComponentLink2Description: Datasheet; ComponentLink2URL: http://katalog.we-online.de/pbs/datasheet/74438356010.pdf
footprint WE-MAPI_4020 (Chip Inductor, 2-Leads, Body 4.1x 4.1mm,IPC Medium Density)
pins: 1, 2

## WE-MAPI 4020, 74438356012
designator L?, comment 1.2µH
WE-MAPI SMD Metal Alloy Power Inductor, Inductance = 1.2µH; partNo: 74438356012; Manufacturer: Wurth Elektronik; Inductance: 1.2µH; ComponentLink1Description: Manufacturer; ComponentLink1URL: http://www.we-online.de; Created by: Baojun Chen; Created Date: Dec.2015; ComponentLink2Description: Datasheet; ComponentLink2URL: http://katalog.we-online.de/pbs/datasheet/74438356012.pdf
footprint WE-MAPI_4020 (Chip Inductor, 2-Leads, Body 4.1x 4.1mm,IPC Medium Density)
pins: 1, 2

## WE-MAPI 4020, 74438356015
designator L?, comment 1.5µH
WE-MAPI SMD Metal Alloy Power Inductor, Inductance =1.5µH; partNo: 74438356015; Manufacturer: Wurth Elektronik; Inductance: 1.5µH; ComponentLink1Description: Manufacturer; ComponentLink1URL: http://www.we-online.de; Created by: Baojun Chen; Created Date: Dec.2015; ComponentLink2Description: Datasheet; ComponentLink2URL: http://katalog.we-online.de/pbs/datasheet/74438356015.pdf
footprint WE-MAPI_4020 (Chip Inductor, 2-Leads, Body 4.1x 4.1mm,IPC Medium Density)
pins: 1, 2

## WE-MAPI 4020, 74438356018
designator L?, comment 1.8µH
WE-MAPI SMD Metal Alloy Power Inductor, Inductance =1.8µH; partNo: 74438356018; Manufacturer: Wurth Elektronik; Inductance: 1.8µH; ComponentLink1Description: Manufacturer; ComponentLink1URL: http://www.we-online.de; Created by: Baojun Chen; Created Date: Dec.2015; ComponentLink2Description: Datasheet; ComponentLink2URL: http://katalog.we-online.de/pbs/datasheet/74438356018.pdf
footprint WE-MAPI_4020 (Chip Inductor, 2-Leads, Body 4.1x 4.1mm,IPC Medium Density)
pins: 1, 2

## WE-MAPI 4020, 74438356022
designator L?, comment 2.2µH
WE-MAPI SMD Metal Alloy Power Inductor, Inductance = 2.2µH; partNo: 74438356022; Manufacturer: Wurth Elektronik; Inductance: 2.2µH; ComponentLink1Description: Manufacturer; ComponentLink1URL: http://www.we-online.de; Created by: Baojun Chen; Created Date: Dec.2015; ComponentLink2Description: Datasheet; ComponentLink2URL: http://katalog.we-online.de/pbs/datasheet/74438356022.pdf
footprint WE-MAPI_4020 (Chip Inductor, 2-Leads, Body 4.1x 4.1mm,IPC Medium Density)
pins: 1, 2

## WE-MAPI 4020, 74438356033
designator L?, comment 3.3µH
WE-MAPI SMD Metal Alloy Power Inductor, Inductance = 3.3µH; partNo: 74438356033; Manufacturer: Wurth Elektronik; Inductance: 3.3µH; ComponentLink1Description: Manufacturer; ComponentLink1URL: http://www.we-online.de; Created by: Baojun Chen; Created Date: Dec.2015; ComponentLink2Description: Datasheet; ComponentLink2URL: http://katalog.we-online.de/pbs/datasheet/74438356033.pdf
footprint WE-MAPI_4020 (Chip Inductor, 2-Leads, Body 4.1x 4.1mm,IPC Medium Density)
pins: 1, 2

## WE-MAPI 4020, 74438356047
designator L?, comment 4.7µH
WE-MAPI SMD Metal Alloy Power Inductor, Inductance = 4.7µH; partNo: 74438356047; Manufacturer: Wurth Elektronik; Inductance: 4.7µH; ComponentLink1Description: Manufacturer; ComponentLink1URL: http://www.we-online.de; Created by: Baojun Chen; Created Date: Dec.2015; ComponentLink2Description: Datasheet; ComponentLink2URL: http://katalog.we-online.de/pbs/datasheet/74438356047.pdf
footprint WE-MAPI_4020 (Chip Inductor, 2-Leads, Body 4.1x 4.1mm,IPC Medium Density)
pins: 1, 2

## WE-MAPI 4020, 74438356056
designator L?, comment 5.6µH
WE-MAPI SMD Metal Alloy Power Inductor, Inductance = 5.6µH; partNo: 74438356056; Manufacturer: Wurth Elektronik; Inductance: 5.6µH; ComponentLink1Description: Manufacturer; ComponentLink1URL: http://www.we-online.de; Created by: Baojun Chen; Created Date: Dec.2015; ComponentLink2Description: Datasheet; ComponentLink2URL: http://katalog.we-online.de/pbs/datasheet/74438356056.pdf
footprint WE-MAPI_4020 (Chip Inductor, 2-Leads, Body 4.1x 4.1mm,IPC Medium Density)
pins: 1, 2

## WE-MAPI 4020, 744383560033
designator L?, comment 0.33µH
WE-MAPI SMD Metal Alloy Power Inductor, Inductance = 0.33µH; partNo: 744383560033; Manufacturer: Wurth Elektronik; Inductance: 0.33µH; ComponentLink1Description: Manufacturer; ComponentLink1URL: http://www.we-online.de; Created by: Baojun Chen; Created Date: Dec.2015; ComponentLink2Description: Datasheet; ComponentLink2URL: http://katalog.we-online.de/pbs/datasheet/744383560033.pdf
footprint WE-MAPI_4020 (Chip Inductor, 2-Leads, Body 4.1x 4.1mm,IPC Medium Density)
pins: 1, 2

## WE-MAPI 4020, 744383560056
designator L?, comment 0.56µH
WE-MAPI SMD Metal Alloy Power Inductor, Inductance =0.56µH; partNo: 744383560056; Manufacturer: Wurth Elektronik; Inductance: 0.56µH; ComponentLink1Description: Manufacturer; ComponentLink1URL: http://www.we-online.de; Created by: Baojun Chen; Created Date: Dec.2015; ComponentLink2Description: Datasheet; ComponentLink2URL: http://katalog.we-online.de/pbs/datasheet/744383560056.pdf
footprint WE-MAPI_4020 (Chip Inductor, 2-Leads, Body 4.1x 4.1mm,IPC Medium Density)
pins: 1, 2

## WE-MAPI 4020, 744383560068
designator L?, comment 0.68µH
WE-MAPI SMD Metal Alloy Power Inductor, Inductance =0.68µH; partNo: 744383560068; Manufacturer: Wurth Elektronik; Inductance: 0.68µH; ComponentLink1Description: Manufacturer; ComponentLink1URL: http://www.we-online.de; Created by: Baojun Chen; Created Date: Dec.2015; ComponentLink2Description: Datasheet; ComponentLink2URL: http://katalog.we-online.de/pbs/datasheet/744383560068.pdf
footprint WE-MAPI_4020 (Chip Inductor, 2-Leads, Body 4.1x 4.1mm,IPC Medium Density)
pins: 1, 2